# Altium schematic symbol library 1755749.SchLib: 1 symbol
Pins are listed as number, name and electrical type; pins without a type are passive.

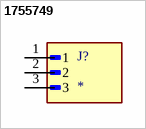
[diagram p0: symbol 1755749]

## 1755749
designator J?
MP: 1755749; Package: None; Price: None; Value: *; Availability: Unavailable
footprint PHOENIX_1755749
pins: 1, 2, 3